# Altium schematic symbol library SCH - POWER - SWITCHMODE - TI TPS566231RQF.SchLib: 1 symbol
Pins are listed as number, name and electrical type; pins without a type are passive.

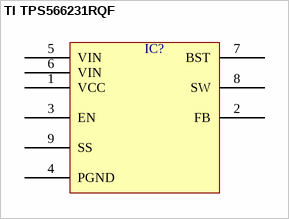
[diagram p0: symbol TI TPS566231RQF]

## TI TPS566231RQF
designator IC?  (value not drawn)
pins: 1 VCC, 2 FB, 3 EN, 4 PGND, 5 VIN, 6 VIN, 7 BST, 8 SW, 9 SS